# EAGLE library part MBED_NXP_LPC1768 (library RoboJackets-Boards)
Mbed LPC1768 - ARM CORTEX v2.1 Website <https://os.mbed.com/platforms/mbed-LPC1768/>
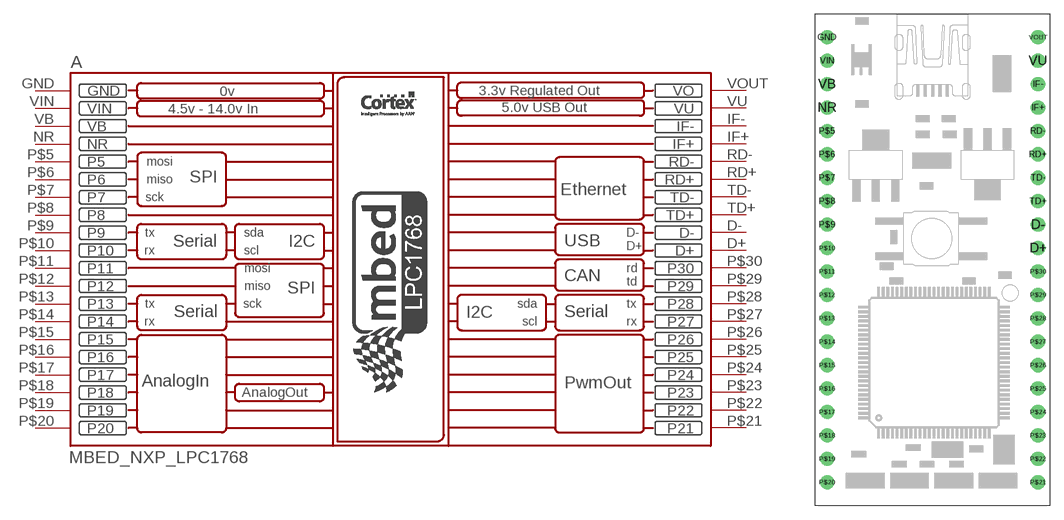
[diagram p0: symbol with the pads of MBED_LPC1768; footprint MBED_LPC1768]

Designator prefix A

## MBED_NXP_LPC1768 (DKPN: 568-4916-ND)  [MBED_LPC1768]
D+  D+  pas
D-  D-  pas
GND  GND  pas
IF+  IF+  pas
IF-  IF-  pas
NR  NR  pas
P$5  P5  pas
P$6  P6  pas
P$7  P7  pas
P$8  P8  pas
P$9  P9  pas
P$10  P10  pas
P$11  P11  pas
P$12  P12  pas
P$13  P13  pas
P$14  P14  pas
P$15  P15  pas
P$16  P16  pas
P$17  P17  pas
P$18  P18  pas
P$19  P19  pas
P$20  P20  pas
P$21  P21  pas
P$22  P22  pas
P$23  P23  pas
P$24  P24  pas
P$25  P25  pas
P$26  P26  pas
P$27  P27  pas
P$28  P28  pas
P$29  P29  pas
P$30  P30  pas
RD+  RD+  pas
RD-  RD-  pas
TD+  TD+  pas
TD-  TD-  pas
VB  VB  pas
VIN  VIN  pas
VOUT  VO  pas
VU  VU  pas

## Footprint MBED_LPC1768 (pad centres in mm)
Website <https://os.mbed.com/platforms/mbed-LPC1768/>
drill 1.02: D+ 11.43,1.27; D- 11.43,3.81; GND -11.43,24.13; IF+ 11.43,16.51; IF- 11.43,19.05; NR -11.43,16.51; P$5 -11.43,13.97; P$6 -11.43,11.43; P$7 -11.43,8.89; P$8 -11.43,6.35; P$9 -11.43,3.81; P$10 -11.43,1.27; P$11 -11.43,-1.27; P$12 -11.43,-3.81; P$13 -11.43,-6.35; P$14 -11.43,-8.89; P$15 -11.43,-11.43; P$16 -11.43,-13.97; P$17 -11.43,-16.51; P$18 -11.43,-19.05; P$19 -11.43,-21.59; P$20 -11.43,-24.13; P$21 11.43,-24.13; P$22 11.43,-21.59; P$23 11.43,-19.05; P$24 11.43,-16.51; P$25 11.43,-13.97; P$26 11.43,-11.43; P$27 11.43,-8.89; P$28 11.43,-6.35; P$29 11.43,-3.81; P$30 11.43,-1.27; RD+ 11.43,11.43; RD- 11.43,13.97; TD+ 11.43,6.35; TD- 11.43,8.89; VB -11.43,19.05; VIN -11.43,21.59; VOUT 11.43,24.13; VU 11.43,21.59